# Altium integrated library WE-PD2A_rev15a.intlib: 99 symbols
Pins are listed as number, name and electrical type; pins without a type are passive.

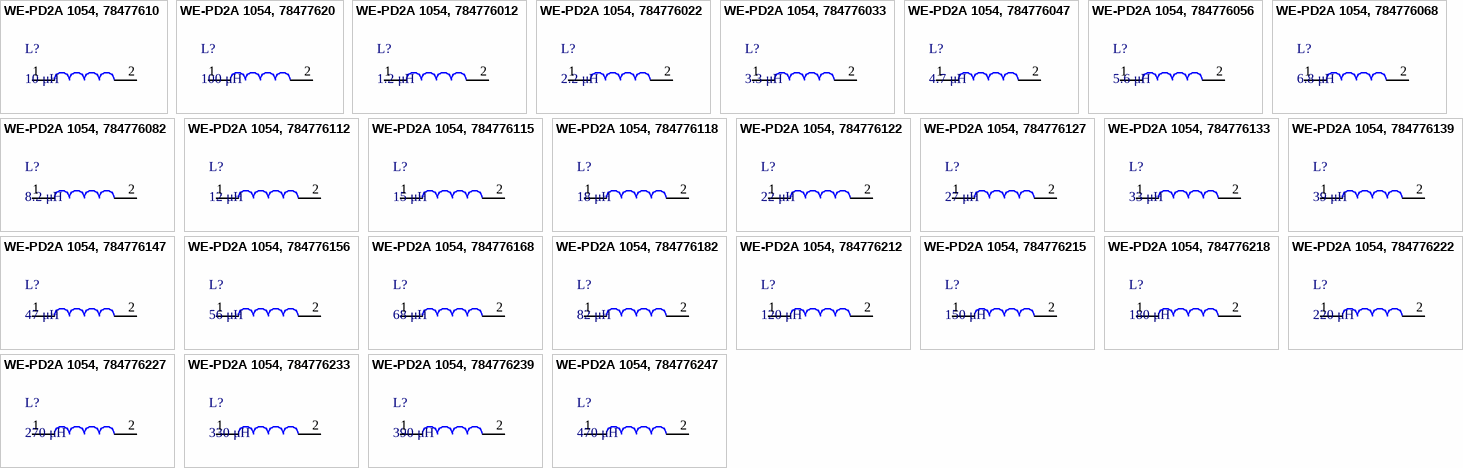
[diagram p0: symbols WE-PD2A 1054, 78477610 to WE-PD2A 1054, 784776247]

## WE-PD2A 1054, 78477610
designator L?, comment 10 μH
WE-PD2A SMD Power Inductor, Inductance = 10 μH; partNo: 78477610; Manufacturer: Wurth Elektronik; Inductance: 10 μH; ComponentLink1Description: Manufacturer; ComponentLink1URL: http://www.we-online.de; Created by: Baojun Chen; Created Date: Nov.2015; ComponentLink2Description: Datasheet; ComponentLink2URL: http://katalog.we-online.de/pbs/datasheet/78477610.pdf
footprint WE-PD2A_1054
pins: 1, 2

## WE-PD2A 1054, 78477620
designator L?, comment 100 μH
WE-PD2A SMD Power Inductor, Inductance = 100 μH; partNo: 78477620; Manufacturer: Wurth Elektronik; Inductance: 100 μH; ComponentLink1Description: Manufacturer; ComponentLink1URL: http://www.we-online.de; Created by: Baojun Chen; Created Date: Nov.2015; ComponentLink2Description: Datasheet; ComponentLink2URL: http://katalog.we-online.de/pbs/datasheet/78477620.pdf
footprint WE-PD2A_1054
pins: 1, 2

## WE-PD2A 1054, 784776012
designator L?, comment 1.2 μH
WE-PD2A SMD Power Inductor, Inductance = 1.2 μH; partNo: 784776012; Manufacturer: Wurth Elektronik; Inductance: 1.2 μH; ComponentLink1Description: Manufacturer; ComponentLink1URL: http://www.we-online.de; Created by: Baojun Chen; Created Date: Nov.2015; ComponentLink2Description: Datasheet; ComponentLink2URL: http://katalog.we-online.de/pbs/datasheet/784776012.pdf
footprint WE-PD2A_1054
pins: 1, 2

## WE-PD2A 1054, 784776022
designator L?, comment 2.2 μH
WE-PD2A SMD Power Inductor, Inductance = 2.2 μH; partNo: 784776022; Manufacturer: Wurth Elektronik; Inductance: 2.2 μH; ComponentLink1Description: Manufacturer; ComponentLink1URL: http://www.we-online.de; Created by: Baojun Chen; Created Date: Nov.2015; ComponentLink2Description: Datasheet; ComponentLink2URL: http://katalog.we-online.de/pbs/datasheet/784776022.pdf
footprint WE-PD2A_1054
pins: 1, 2

## WE-PD2A 1054, 784776033
designator L?, comment 3.3 μH
WE-PD2A SMD Power Inductor, Inductance = 3.3 μH; partNo: 784776033; Manufacturer: Wurth Elektronik; Inductance: 3.3 μH; ComponentLink1Description: Manufacturer; ComponentLink1URL: http://www.we-online.de; Created by: Baojun Chen; Created Date: Nov.2015; ComponentLink2Description: Datasheet; ComponentLink2URL: http://katalog.we-online.de/pbs/datasheet/784776033.pdf
footprint WE-PD2A_1054
pins: 1, 2

## WE-PD2A 1054, 784776047
designator L?, comment 4.7 μH
WE-PD2A SMD Power Inductor, Inductance = 4.7 μH; partNo: 784776047; Manufacturer: Wurth Elektronik; Inductance: 4.7 μH; ComponentLink1Description: Manufacturer; ComponentLink1URL: http://www.we-online.de; Created by: Baojun Chen; Created Date: Nov.2015; ComponentLink2Description: Datasheet; ComponentLink2URL: http://katalog.we-online.de/pbs/datasheet/784776047.pdf
footprint WE-PD2A_1054
pins: 1, 2

## WE-PD2A 1054, 784776056
designator L?, comment 5.6 μH
WE-PD2A SMD Power Inductor, Inductance = 5.6 μH; partNo: 784776056; Manufacturer: Wurth Elektronik; Inductance: 5.6 μH; ComponentLink1Description: Manufacturer; ComponentLink1URL: http://www.we-online.de; Created by: Baojun Chen; Created Date: Nov.2015; ComponentLink2Description: Datasheet; ComponentLink2URL: http://katalog.we-online.de/pbs/datasheet/784776056.pdf
footprint WE-PD2A_1054
pins: 1, 2

## WE-PD2A 1054, 784776068
designator L?, comment 6.8 μH
WE-PD2A SMD Power Inductor, Inductance = 6.8 μH; partNo: 784776068; Manufacturer: Wurth Elektronik; Inductance: 6.8 μH; ComponentLink1Description: Manufacturer; ComponentLink1URL: http://www.we-online.de; Created by: Baojun Chen; Created Date: Nov.2015; ComponentLink2Description: Datasheet; ComponentLink2URL: http://katalog.we-online.de/pbs/datasheet/784776068.pdf
footprint WE-PD2A_1054
pins: 1, 2

## WE-PD2A 1054, 784776082
designator L?, comment 8.2 μH
WE-PD2A SMD Power Inductor, Inductance = 8.2 μH; partNo: 784776082; Manufacturer: Wurth Elektronik; Inductance: 8.2 μH; ComponentLink1Description: Manufacturer; ComponentLink1URL: http://www.we-online.de; Created by: Baojun Chen; Created Date: Nov.2015; ComponentLink2Description: Datasheet; ComponentLink2URL: http://katalog.we-online.de/pbs/datasheet/784776082.pdf
footprint WE-PD2A_1054
pins: 1, 2

## WE-PD2A 1054, 784776112
designator L?, comment 12 μH
WE-PD2A SMD Power Inductor, Inductance = 12 μH; partNo: 784776112; Manufacturer: Wurth Elektronik; Inductance: 12 μH; ComponentLink1Description: Manufacturer; ComponentLink1URL: http://www.we-online.de; Created by: Baojun Chen; Created Date: Nov.2015; ComponentLink2Description: Datasheet; ComponentLink2URL: http://katalog.we-online.de/pbs/datasheet/784776112.pdf
footprint WE-PD2A_1054
pins: 1, 2

## WE-PD2A 1054, 784776115
designator L?, comment 15 μH
WE-PD2A SMD Power Inductor, Inductance = 15 μH; partNo: 784776115; Manufacturer: Wurth Elektronik; Inductance: 15 μH; ComponentLink1Description: Manufacturer; ComponentLink1URL: http://www.we-online.de; Created by: Baojun Chen; Created Date: Nov.2015; ComponentLink2Description: Datasheet; ComponentLink2URL: http://katalog.we-online.de/pbs/datasheet/784776115.pdf
footprint WE-PD2A_1054
pins: 1, 2

## WE-PD2A 1054, 784776118
designator L?, comment 18 μH
WE-PD2A SMD Power Inductor, Inductance = 18 μH; partNo: 784776118; Manufacturer: Wurth Elektronik; Inductance: 18 μH; ComponentLink1Description: Manufacturer; ComponentLink1URL: http://www.we-online.de; Created by: Baojun Chen; Created Date: Nov.2015; ComponentLink2Description: Datasheet; ComponentLink2URL: http://katalog.we-online.de/pbs/datasheet/784776118.pdf
footprint WE-PD2A_1054
pins: 1, 2

## WE-PD2A 1054, 784776122
designator L?, comment 22 μH
WE-PD2A SMD Power Inductor, Inductance = 22 μH; partNo: 784776122; Manufacturer: Wurth Elektronik; Inductance: 22 μH; ComponentLink1Description: Manufacturer; ComponentLink1URL: http://www.we-online.de; Created by: Baojun Chen; Created Date: Nov.2015; ComponentLink2Description: Datasheet; ComponentLink2URL: http://katalog.we-online.de/pbs/datasheet/784776122.pdf
footprint WE-PD2A_1054
pins: 1, 2

## WE-PD2A 1054, 784776127
designator L?, comment 27 μH
WE-PD2A SMD Power Inductor, Inductance = 27 μH; partNo: 784776127; Manufacturer: Wurth Elektronik; Inductance: 27 μH; ComponentLink1Description: Manufacturer; ComponentLink1URL: http://www.we-online.de; Created by: Baojun Chen; Created Date: Nov.2015; ComponentLink2Description: Datasheet; ComponentLink2URL: http://katalog.we-online.de/pbs/datasheet/784776127.pdf
footprint WE-PD2A_1054
pins: 1, 2

## WE-PD2A 1054, 784776133
designator L?, comment 33 μH
WE-PD2A SMD Power Inductor, Inductance = 33 μH; partNo: 784776133; Manufacturer: Wurth Elektronik; Inductance: 33 μH; ComponentLink1Description: Manufacturer; ComponentLink1URL: http://www.we-online.de; Created by: Baojun Chen; Created Date: Nov.2015; ComponentLink2Description: Datasheet; ComponentLink2URL: http://katalog.we-online.de/pbs/datasheet/784776133.pdf
footprint WE-PD2A_1054
pins: 1, 2

## WE-PD2A 1054, 784776139
designator L?, comment 39 μH
WE-PD2A SMD Power Inductor, Inductance = 39 μH; partNo: 784776139; Manufacturer: Wurth Elektronik; Inductance: 39 μH; ComponentLink1Description: Manufacturer; ComponentLink1URL: http://www.we-online.de; Created by: Baojun Chen; Created Date: Nov.2015; ComponentLink2Description: Datasheet; ComponentLink2URL: http://katalog.we-online.de/pbs/datasheet/784776139.pdf
footprint WE-PD2A_1054
pins: 1, 2

## WE-PD2A 1054, 784776147
designator L?, comment 47 μH
WE-PD2A SMD Power Inductor, Inductance = 47 μH; partNo: 784776147; Manufacturer: Wurth Elektronik; Inductance: 47 μH; ComponentLink1Description: Manufacturer; ComponentLink1URL: http://www.we-online.de; Created by: Baojun Chen; Created Date: Nov.2015; ComponentLink2Description: Datasheet; ComponentLink2URL: http://katalog.we-online.de/pbs/datasheet/784776147.pdf
footprint WE-PD2A_1054
pins: 1, 2

## WE-PD2A 1054, 784776156
designator L?, comment 56 μH
WE-PD2A SMD Power Inductor, Inductance = 56 μH; partNo: 784776156; Manufacturer: Wurth Elektronik; Inductance: 56 μH; ComponentLink1Description: Manufacturer; ComponentLink1URL: http://www.we-online.de; Created by: Baojun Chen; Created Date: Nov.2015; ComponentLink2Description: Datasheet; ComponentLink2URL: http://katalog.we-online.de/pbs/datasheet/784776156.pdf
footprint WE-PD2A_1054
pins: 1, 2

## WE-PD2A 1054, 784776168
designator L?, comment 68 μH
WE-PD2A SMD Power Inductor, Inductance = 68 μH; partNo: 784776168; Manufacturer: Wurth Elektronik; Inductance: 68 μH; ComponentLink1Description: Manufacturer; ComponentLink1URL: http://www.we-online.de; Created by: Baojun Chen; Created Date: Nov.2015; ComponentLink2Description: Datasheet; ComponentLink2URL: http://katalog.we-online.de/pbs/datasheet/784776168.pdf
footprint WE-PD2A_1054
pins: 1, 2

## WE-PD2A 1054, 784776182
designator L?, comment 82 μH
WE-PD2A SMD Power Inductor, Inductance = 82 μH; partNo: 784776182; Manufacturer: Wurth Elektronik; Inductance: 82 μH; ComponentLink1Description: Manufacturer; ComponentLink1URL: http://www.we-online.de; Created by: Baojun Chen; Created Date: Nov.2015; ComponentLink2Description: Datasheet; ComponentLink2URL: http://katalog.we-online.de/pbs/datasheet/784776182.pdf
footprint WE-PD2A_1054
pins: 1, 2

## WE-PD2A 1054, 784776212
designator L?, comment 120 μH
WE-PD2A SMD Power Inductor, Inductance = 120 μH; partNo: 784776212; Manufacturer: Wurth Elektronik; Inductance: 120 μH; ComponentLink1Description: Manufacturer; ComponentLink1URL: http://www.we-online.de; Created by: Baojun Chen; Created Date: Nov.2015; ComponentLink2Description: Datasheet; ComponentLink2URL: http://katalog.we-online.de/pbs/datasheet/784776212.pdf
footprint WE-PD2A_1054
pins: 1, 2

## WE-PD2A 1054, 784776215
designator L?, comment 150 μH
WE-PD2A SMD Power Inductor, Inductance = 150 μH; partNo: 784776215; Manufacturer: Wurth Elektronik; Inductance: 150 μH; ComponentLink1Description: Manufacturer; ComponentLink1URL: http://www.we-online.de; Created by: Baojun Chen; Created Date: Nov.2015; ComponentLink2Description: Datasheet; ComponentLink2URL: http://katalog.we-online.de/pbs/datasheet/784776215.pdf
footprint WE-PD2A_1054
pins: 1, 2

## WE-PD2A 1054, 784776218
designator L?, comment 180 μH
WE-PD2A SMD Power Inductor, Inductance = 180 μH; partNo: 784776218; Manufacturer: Wurth Elektronik; Inductance: 180 μH; ComponentLink1Description: Manufacturer; ComponentLink1URL: http://www.we-online.de; Created by: Baojun Chen; Created Date: Nov.2015; ComponentLink2Description: Datasheet; ComponentLink2URL: http://katalog.we-online.de/pbs/datasheet/784776218.pdf
footprint WE-PD2A_1054
pins: 1, 2

## WE-PD2A 1054, 784776222
designator L?, comment 220 μH
WE-PD2A SMD Power Inductor, Inductance = 220 μH; partNo: 784776222; Manufacturer: Wurth Elektronik; Inductance: 220 μH; ComponentLink1Description: Manufacturer; ComponentLink1URL: http://www.we-online.de; Created by: Baojun Chen; Created Date: Nov.2015; ComponentLink2Description: Datasheet; ComponentLink2URL: http://katalog.we-online.de/pbs/datasheet/784776222.pdf
footprint WE-PD2A_1054
pins: 1, 2

## WE-PD2A 1054, 784776227
designator L?, comment 270 μH
WE-PD2A SMD Power Inductor, Inductance = 270 μH; partNo: 784776227; Manufacturer: Wurth Elektronik; Inductance: 270 μH; ComponentLink1Description: Manufacturer; ComponentLink1URL: http://www.we-online.de; Created by: Baojun Chen; Created Date: Nov.2015; ComponentLink2Description: Datasheet; ComponentLink2URL: http://katalog.we-online.de/pbs/datasheet/784776227.pdf
footprint WE-PD2A_1054
pins: 1, 2

## WE-PD2A 1054, 784776233
designator L?, comment 330 μH
WE-PD2A SMD Power Inductor, Inductance = 330 μH; partNo: 784776233; Manufacturer: Wurth Elektronik; Inductance: 330 μH; ComponentLink1Description: Manufacturer; ComponentLink1URL: http://www.we-online.de; Created by: Baojun Chen; Created Date: Nov.2015; ComponentLink2Description: Datasheet; ComponentLink2URL: http://katalog.we-online.de/pbs/datasheet/784776233.pdf
footprint WE-PD2A_1054
pins: 1, 2

## WE-PD2A 1054, 784776239
designator L?, comment 390 μH
WE-PD2A SMD Power Inductor, Inductance = 390 μH; partNo: 784776239; Manufacturer: Wurth Elektronik; Inductance: 390 μH; ComponentLink1Description: Manufacturer; ComponentLink1URL: http://www.we-online.de; Created by: Baojun Chen; Created Date: Nov.2015; ComponentLink2Description: Datasheet; ComponentLink2URL: http://katalog.we-online.de/pbs/datasheet/784776239.pdf
footprint WE-PD2A_1054
pins: 1, 2

## WE-PD2A 1054, 784776247
designator L?, comment 470 μH
WE-PD2A SMD Power Inductor, Inductance = 470 μH; partNo: 784776247; Manufacturer: Wurth Elektronik; Inductance: 470 μH; ComponentLink1Description: Manufacturer; ComponentLink1URL: http://www.we-online.de; Created by: Baojun Chen; Created Date: Nov.2015; ComponentLink2Description: Datasheet; ComponentLink2URL: http://katalog.we-online.de/pbs/datasheet/784776247.pdf
footprint WE-PD2A_1054
pins: 1, 2


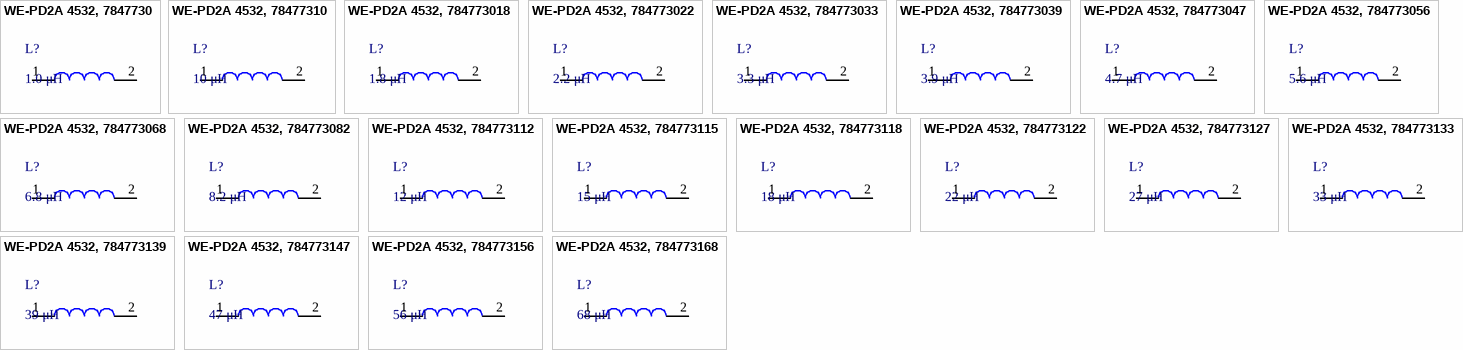
[diagram p1: symbols WE-PD2A 4532, 7847730 to WE-PD2A 4532, 784773168]

## WE-PD2A 4532, 7847730
designator L?, comment 1.0 μH
WE-PD2A SMD Power Inductor, Inductance = 1.0 μH; partNo: 7847730; Manufacturer: Wurth Elektronik; Inductance: 1.0 μH; ComponentLink1Description: Manufacturer; ComponentLink1URL: http://www.we-online.de; Created by: Baojun Chen; Created Date: Nov.2015; ComponentLink2Description: Datasheet; ComponentLink2URL: http://katalog.we-online.de/pbs/datasheet/7847730.pdf
footprint WE-PD2A_4532
pins: 1, 2

## WE-PD2A 4532, 78477310
designator L?, comment 10 μH
WE-PD2A SMD Power Inductor, Inductance = 10 μH; partNo: 78477310; Manufacturer: Wurth Elektronik; Inductance: 10 μH; ComponentLink1Description: Manufacturer; ComponentLink1URL: http://www.we-online.de; Created by: Baojun Chen; Created Date: Nov.2015; ComponentLink2Description: Datasheet; ComponentLink2URL: http://katalog.we-online.de/pbs/datasheet/78477310.pdf
footprint WE-PD2A_4532
pins: 1, 2

## WE-PD2A 4532, 784773018
designator L?, comment 1.8 μH
WE-PD2A SMD Power Inductor, Inductance = 1.8 μH; partNo: 784773018; Manufacturer: Wurth Elektronik; Inductance: 1.8 μH; ComponentLink1Description: Manufacturer; ComponentLink1URL: http://www.we-online.de; Created by: Baojun Chen; Created Date: Nov.2015; ComponentLink2Description: Datasheet; ComponentLink2URL: http://katalog.we-online.de/pbs/datasheet/784773018.pdf
footprint WE-PD2A_4532
pins: 1, 2

## WE-PD2A 4532, 784773022
designator L?, comment 2.2 μH
WE-PD2A SMD Power Inductor, Inductance = 2.2 μH; partNo: 784773022; Manufacturer: Wurth Elektronik; Inductance: 2.2 μH; ComponentLink1Description: Manufacturer; ComponentLink1URL: http://www.we-online.de; Created by: Baojun Chen; Created Date: Nov.2015; ComponentLink2Description: Datasheet; ComponentLink2URL: http://katalog.we-online.de/pbs/datasheet/784773022.pdf
footprint WE-PD2A_4532
pins: 1, 2

## WE-PD2A 4532, 784773033
designator L?, comment 3.3 μH
WE-PD2A SMD Power Inductor, Inductance = 3.3 μH; partNo: 784773033; Manufacturer: Wurth Elektronik; Inductance: 3.3 μH; ComponentLink1Description: Manufacturer; ComponentLink1URL: http://www.we-online.de; Created by: Baojun Chen; Created Date: Nov.2015; ComponentLink2Description: Datasheet; ComponentLink2URL: http://katalog.we-online.de/pbs/datasheet/784773033.pdf
footprint WE-PD2A_4532
pins: 1, 2

## WE-PD2A 4532, 784773039
designator L?, comment 3.9 μH
WE-PD2A SMD Power Inductor, Inductance = 3.9 μH; partNo: 784773039; Manufacturer: Wurth Elektronik; Inductance: 3.9 μH; ComponentLink1Description: Manufacturer; ComponentLink1URL: http://www.we-online.de; Created by: Baojun Chen; Created Date: Nov.2015; ComponentLink2Description: Datasheet; ComponentLink2URL: http://katalog.we-online.de/pbs/datasheet/784773039.pdf
footprint WE-PD2A_4532
pins: 1, 2

## WE-PD2A 4532, 784773047
designator L?, comment 4.7 μH
WE-PD2A SMD Power Inductor, Inductance = 4.7 μH; partNo: 784773047; Manufacturer: Wurth Elektronik; Inductance: 4.7 μH; ComponentLink1Description: Manufacturer; ComponentLink1URL: http://www.we-online.de; Created by: Baojun Chen; Created Date: Nov.2015; ComponentLink2Description: Datasheet; ComponentLink2URL: http://katalog.we-online.de/pbs/datasheet/784773047.pdf
footprint WE-PD2A_4532
pins: 1, 2

## WE-PD2A 4532, 784773056
designator L?, comment 5.6 μH
WE-PD2A SMD Power Inductor, Inductance = 5.6 μH; partNo: 784773056; Manufacturer: Wurth Elektronik; Inductance: 5.6 μH; ComponentLink1Description: Manufacturer; ComponentLink1URL: http://www.we-online.de; Created by: Baojun Chen; Created Date: Nov.2015; ComponentLink2Description: Datasheet; ComponentLink2URL: http://katalog.we-online.de/pbs/datasheet/784773056.pdf
footprint WE-PD2A_4532
pins: 1, 2

## WE-PD2A 4532, 784773068
designator L?, comment 6.8 μH
WE-PD2A SMD Power Inductor, Inductance = 6.8 μH; partNo: 784773068; Manufacturer: Wurth Elektronik; Inductance: 6.8 μH; ComponentLink1Description: Manufacturer; ComponentLink1URL: http://www.we-online.de; Created by: Baojun Chen; Created Date: Nov.2015; ComponentLink2Description: Datasheet; ComponentLink2URL: http://katalog.we-online.de/pbs/datasheet/784773068.pdf
footprint WE-PD2A_4532
pins: 1, 2

## WE-PD2A 4532, 784773082
designator L?, comment 8.2 μH
WE-PD2A SMD Power Inductor, Inductance = 8.2 μH; partNo: 784773082; Manufacturer: Wurth Elektronik; Inductance: 8.2 μH; ComponentLink1Description: Manufacturer; ComponentLink1URL: http://www.we-online.de; Created by: Baojun Chen; Created Date: Nov.2015; ComponentLink2Description: Datasheet; ComponentLink2URL: http://katalog.we-online.de/pbs/datasheet/784773082.pdf
footprint WE-PD2A_4532
pins: 1, 2

## WE-PD2A 4532, 784773112
designator L?, comment 12 μH
WE-PD2A SMD Power Inductor, Inductance = 12 μH; partNo: 784773112; Manufacturer: Wurth Elektronik; Inductance: 12 μH; ComponentLink1Description: Manufacturer; ComponentLink1URL: http://www.we-online.de; Created by: Baojun Chen; Created Date: Nov.2015; ComponentLink2Description: Datasheet; ComponentLink2URL: http://katalog.we-online.de/pbs/datasheet/784773112.pdf
footprint WE-PD2A_4532
pins: 1, 2

## WE-PD2A 4532, 784773115
designator L?, comment 15 μH
WE-PD2A SMD Power Inductor, Inductance = 15 μH; partNo: 784773115; Manufacturer: Wurth Elektronik; Inductance: 15 μH; ComponentLink1Description: Manufacturer; ComponentLink1URL: http://www.we-online.de; Created by: Baojun Chen; Created Date: Nov.2015; ComponentLink2Description: Datasheet; ComponentLink2URL: http://katalog.we-online.de/pbs/datasheet/784773115.pdf
footprint WE-PD2A_4532
pins: 1, 2

## WE-PD2A 4532, 784773118
designator L?, comment 18 μH
WE-PD2A SMD Power Inductor, Inductance = 18 μH; partNo: 784773118; Manufacturer: Wurth Elektronik; Inductance: 18 μH; ComponentLink1Description: Manufacturer; ComponentLink1URL: http://www.we-online.de; Created by: Baojun Chen; Created Date: Nov.2015; ComponentLink2Description: Datasheet; ComponentLink2URL: http://katalog.we-online.de/pbs/datasheet/784773118.pdf
footprint WE-PD2A_4532
pins: 1, 2

## WE-PD2A 4532, 784773122
designator L?, comment 22 μH
WE-PD2A SMD Power Inductor, Inductance = 22 μH; partNo: 784773122; Manufacturer: Wurth Elektronik; Inductance: 22 μH; ComponentLink1Description: Manufacturer; ComponentLink1URL: http://www.we-online.de; Created by: Baojun Chen; Created Date: Nov.2015; ComponentLink2Description: Datasheet; ComponentLink2URL: http://katalog.we-online.de/pbs/datasheet/784773122.pdf
footprint WE-PD2A_4532
pins: 1, 2

## WE-PD2A 4532, 784773127
designator L?, comment 27 μH
WE-PD2A SMD Power Inductor, Inductance = 27 μH; partNo: 784773127; Manufacturer: Wurth Elektronik; Inductance: 27 μH; ComponentLink1Description: Manufacturer; ComponentLink1URL: http://www.we-online.de; Created by: Baojun Chen; Created Date: Nov.2015; ComponentLink2Description: Datasheet; ComponentLink2URL: http://katalog.we-online.de/pbs/datasheet/784773127.pdf
footprint WE-PD2A_4532
pins: 1, 2

## WE-PD2A 4532, 784773133
designator L?, comment 33 μH
WE-PD2A SMD Power Inductor, Inductance = 33 μH; partNo: 784773133; Manufacturer: Wurth Elektronik; Inductance: 33 μH; ComponentLink1Description: Manufacturer; ComponentLink1URL: http://www.we-online.de; Created by: Baojun Chen; Created Date: Nov.2015; ComponentLink2Description: Datasheet; ComponentLink2URL: http://katalog.we-online.de/pbs/datasheet/784773133.pdf
footprint WE-PD2A_4532
pins: 1, 2

## WE-PD2A 4532, 784773139
designator L?, comment 39 μH
WE-PD2A SMD Power Inductor, Inductance = 39 μH; partNo: 784773139; Manufacturer: Wurth Elektronik; Inductance: 39 μH; ComponentLink1Description: Manufacturer; ComponentLink1URL: http://www.we-online.de; Created by: Baojun Chen; Created Date: Nov.2015; ComponentLink2Description: Datasheet; ComponentLink2URL: http://katalog.we-online.de/pbs/datasheet/784773139.pdf
footprint WE-PD2A_4532
pins: 1, 2

## WE-PD2A 4532, 784773147
designator L?, comment 47 μH
WE-PD2A SMD Power Inductor, Inductance = 47 μH; partNo: 784773147; Manufacturer: Wurth Elektronik; Inductance: 47 μH; ComponentLink1Description: Manufacturer; ComponentLink1URL: http://www.we-online.de; Created by: Baojun Chen; Created Date: Nov.2015; ComponentLink2Description: Datasheet; ComponentLink2URL: http://katalog.we-online.de/pbs/datasheet/784773147.pdf
footprint WE-PD2A_4532
pins: 1, 2

## WE-PD2A 4532, 784773156
designator L?, comment 56 μH
WE-PD2A SMD Power Inductor, Inductance = 56 μH; partNo: 784773156; Manufacturer: Wurth Elektronik; Inductance: 56 μH; ComponentLink1Description: Manufacturer; ComponentLink1URL: http://www.we-online.de; Created by: Baojun Chen; Created Date: Nov.2015; ComponentLink2Description: Datasheet; ComponentLink2URL: http://katalog.we-online.de/pbs/datasheet/784773156.pdf
footprint WE-PD2A_4532
pins: 1, 2

## WE-PD2A 4532, 784773168
designator L?, comment 68 μH
WE-PD2A SMD Power Inductor, Inductance = 68 μH; partNo: 784773168; Manufacturer: Wurth Elektronik; Inductance: 68 μH; ComponentLink1Description: Manufacturer; ComponentLink1URL: http://www.we-online.de; Created by: Baojun Chen; Created Date: Nov.2015; ComponentLink2Description: Datasheet; ComponentLink2URL: http://katalog.we-online.de/pbs/datasheet/784773168.pdf
footprint WE-PD2A_4532
pins: 1, 2


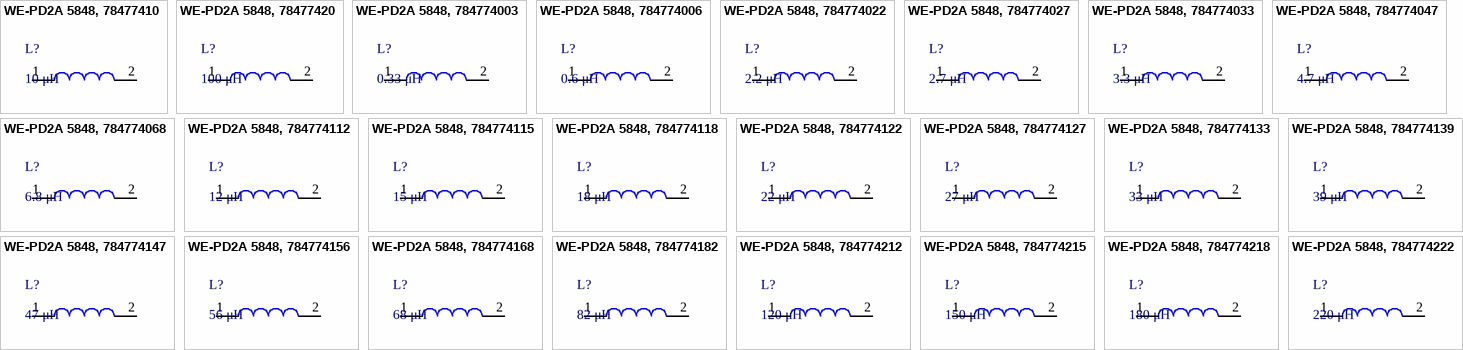
[diagram p2: symbols WE-PD2A 5848, 78477410 to WE-PD2A 5848, 784774222]

## WE-PD2A 5848, 78477410
designator L?, comment 10 μH
WE-PD2A SMD Power Inductor, Inductance = 10 μH; partNo: 78477410; Manufacturer: Wurth Elektronik; Inductance: 10 μH; ComponentLink1Description: Manufacturer; ComponentLink1URL: http://www.we-online.de; Created by: Baojun Chen; Created Date: Nov.2015; ComponentLink2Description: Datasheet; ComponentLink2URL: http://katalog.we-online.de/pbs/datasheet/78477410.pdf
footprint WE-PD2A_5848
pins: 1, 2

## WE-PD2A 5848, 78477420
designator L?, comment 100 μH
WE-PD2A SMD Power Inductor, Inductance = 100 μH; partNo: 78477420; Manufacturer: Wurth Elektronik; Inductance: 100 μH; ComponentLink1Description: Manufacturer; ComponentLink1URL: http://www.we-online.de; Created by: Baojun Chen; Created Date: Nov.2015; ComponentLink2Description: Datasheet; ComponentLink2URL: http://katalog.we-online.de/pbs/datasheet/78477420.pdf
footprint WE-PD2A_5848
pins: 1, 2

## WE-PD2A 5848, 784774003
designator L?, comment 0.33 μH
WE-PD2A SMD Power Inductor, Inductance = 0.33 μH; partNo: 784774003; Manufacturer: Wurth Elektronik; Inductance: 0.33 μH; ComponentLink1Description: Manufacturer; ComponentLink1URL: http://www.we-online.de; Created by: Baojun Chen; Created Date: Nov.2015; ComponentLink2Description: Datasheet; ComponentLink2URL: http://katalog.we-online.de/pbs/datasheet/784774003.pdf
footprint WE-PD2A_5848
pins: 1, 2

## WE-PD2A 5848, 784774006
designator L?, comment 0.6 μH
WE-PD2A SMD Power Inductor, Inductance = 0.6 μH; partNo: 784774006; Manufacturer: Wurth Elektronik; Inductance: 0.6 μH; ComponentLink1Description: Manufacturer; ComponentLink1URL: http://www.we-online.de; Created by: Baojun Chen; Created Date: Nov.2015; ComponentLink2Description: Datasheet; ComponentLink2URL: http://katalog.we-online.de/pbs/datasheet/784774006.pdf
footprint WE-PD2A_5848
pins: 1, 2

## WE-PD2A 5848, 784774022
designator L?, comment 2.2 μH
WE-PD2A SMD Power Inductor, Inductance = 2.2 μH; partNo: 784774022; Manufacturer: Wurth Elektronik; Inductance: 2.2 μH; ComponentLink1Description: Manufacturer; ComponentLink1URL: http://www.we-online.de; Created by: Baojun Chen; Created Date: Nov.2015; ComponentLink2Description: Datasheet; ComponentLink2URL: http://katalog.we-online.de/pbs/datasheet/784774022.pdf
footprint WE-PD2A_5848
pins: 1, 2

## WE-PD2A 5848, 784774027
designator L?, comment 2.7 μH
WE-PD2A SMD Power Inductor, Inductance = 2.7 μH; partNo: 784774027; Manufacturer: Wurth Elektronik; Inductance: 2.7 μH; ComponentLink1Description: Manufacturer; ComponentLink1URL: http://www.we-online.de; Created by: Baojun Chen; Created Date: Nov.2015; ComponentLink2Description: Datasheet; ComponentLink2URL: http://katalog.we-online.de/pbs/datasheet/784774027.pdf
footprint WE-PD2A_5848
pins: 1, 2

## WE-PD2A 5848, 784774033
designator L?, comment 3.3 μH
WE-PD2A SMD Power Inductor, Inductance = 3.3 μH; partNo: 784774033; Manufacturer: Wurth Elektronik; Inductance: 3.3 μH; ComponentLink1Description: Manufacturer; ComponentLink1URL: http://www.we-online.de; Created by: Baojun Chen; Created Date: Nov.2015; ComponentLink2Description: Datasheet; ComponentLink2URL: http://katalog.we-online.de/pbs/datasheet/784774033.pdf
footprint WE-PD2A_5848
pins: 1, 2

## WE-PD2A 5848, 784774047
designator L?, comment 4.7 μH
WE-PD2A SMD Power Inductor, Inductance = 4.7 μH; partNo: 784774047; Manufacturer: Wurth Elektronik; Inductance: 4.7 μH; ComponentLink1Description: Manufacturer; ComponentLink1URL: http://www.we-online.de; Created by: Baojun Chen; Created Date: Nov.2015; ComponentLink2Description: Datasheet; ComponentLink2URL: http://katalog.we-online.de/pbs/datasheet/784774047.pdf
footprint WE-PD2A_5848
pins: 1, 2

## WE-PD2A 5848, 784774068
designator L?, comment 6.8 μH
WE-PD2A SMD Power Inductor, Inductance = 6.8 μH; partNo: 784774068; Manufacturer: Wurth Elektronik; Inductance: 6.8 μH; ComponentLink1Description: Manufacturer; ComponentLink1URL: http://www.we-online.de; Created by: Baojun Chen; Created Date: Nov.2015; ComponentLink2Description: Datasheet; ComponentLink2URL: http://katalog.we-online.de/pbs/datasheet/784774068.pdf
footprint WE-PD2A_5848
pins: 1, 2

## WE-PD2A 5848, 784774112
designator L?, comment 12 μH
WE-PD2A SMD Power Inductor, Inductance = 12 μH; partNo: 784774112; Manufacturer: Wurth Elektronik; Inductance: 12 μH; ComponentLink1Description: Manufacturer; ComponentLink1URL: http://www.we-online.de; Created by: Baojun Chen; Created Date: Nov.2015; ComponentLink2Description: Datasheet; ComponentLink2URL: http://katalog.we-online.de/pbs/datasheet/784774112.pdf
footprint WE-PD2A_5848
pins: 1, 2

## WE-PD2A 5848, 784774115
designator L?, comment 15 μH
WE-PD2A SMD Power Inductor, Inductance = 15 μH; partNo: 784774115; Manufacturer: Wurth Elektronik; Inductance: 15 μH; ComponentLink1Description: Manufacturer; ComponentLink1URL: http://www.we-online.de; Created by: Baojun Chen; Created Date: Nov.2015; ComponentLink2Description: Datasheet; ComponentLink2URL: http://katalog.we-online.de/pbs/datasheet/784774115.pdf
footprint WE-PD2A_5848
pins: 1, 2

## WE-PD2A 5848, 784774118
designator L?, comment 18 μH
WE-PD2A SMD Power Inductor, Inductance = 18 μH; partNo: 784774118; Manufacturer: Wurth Elektronik; Inductance: 18 μH; ComponentLink1Description: Manufacturer; ComponentLink1URL: http://www.we-online.de; Created by: Baojun Chen; Created Date: Nov.2015; ComponentLink2Description: Datasheet; ComponentLink2URL: http://katalog.we-online.de/pbs/datasheet/784774118.pdf
footprint WE-PD2A_5848
pins: 1, 2

## WE-PD2A 5848, 784774122
designator L?, comment 22 μH
WE-PD2A SMD Power Inductor, Inductance = 22 μH; partNo: 784774122; Manufacturer: Wurth Elektronik; Inductance: 22 μH; ComponentLink1Description: Manufacturer; ComponentLink1URL: http://www.we-online.de; Created by: Baojun Chen; Created Date: Nov.2015; ComponentLink2Description: Datasheet; ComponentLink2URL: http://katalog.we-online.de/pbs/datasheet/784774122.pdf
footprint WE-PD2A_5848
pins: 1, 2

## WE-PD2A 5848, 784774127
designator L?, comment 27 μH
WE-PD2A SMD Power Inductor, Inductance = 27 μH; partNo: 784774127; Manufacturer: Wurth Elektronik; Inductance: 27 μH; ComponentLink1Description: Manufacturer; ComponentLink1URL: http://www.we-online.de; Created by: Baojun Chen; Created Date: Nov.2015; ComponentLink2Description: Datasheet; ComponentLink2URL: http://katalog.we-online.de/pbs/datasheet/784774127.pdf
footprint WE-PD2A_5848
pins: 1, 2

## WE-PD2A 5848, 784774133
designator L?, comment 33 μH
WE-PD2A SMD Power Inductor, Inductance = 33 μH; partNo: 784774133; Manufacturer: Wurth Elektronik; Inductance: 33 μH; ComponentLink1Description: Manufacturer; ComponentLink1URL: http://www.we-online.de; Created by: Baojun Chen; Created Date: Nov.2015; ComponentLink2Description: Datasheet; ComponentLink2URL: http://katalog.we-online.de/pbs/datasheet/784774133.pdf
footprint WE-PD2A_5848
pins: 1, 2

## WE-PD2A 5848, 784774139
designator L?, comment 39 μH
WE-PD2A SMD Power Inductor, Inductance = 39 μH; partNo: 784774139; Manufacturer: Wurth Elektronik; Inductance: 39 μH; ComponentLink1Description: Manufacturer; ComponentLink1URL: http://www.we-online.de; Created by: Baojun Chen; Created Date: Nov.2015; ComponentLink2Description: Datasheet; ComponentLink2URL: http://katalog.we-online.de/pbs/datasheet/784774139.pdf
footprint WE-PD2A_5848
pins: 1, 2

## WE-PD2A 5848, 784774147
designator L?, comment 47 μH
WE-PD2A SMD Power Inductor, Inductance = 47 μH; partNo: 784774147; Manufacturer: Wurth Elektronik; Inductance: 47 μH; ComponentLink1Description: Manufacturer; ComponentLink1URL: http://www.we-online.de; Created by: Baojun Chen; Created Date: Nov.2015; ComponentLink2Description: Datasheet; ComponentLink2URL: http://katalog.we-online.de/pbs/datasheet/784774147.pdf
footprint WE-PD2A_5848
pins: 1, 2

## WE-PD2A 5848, 784774156
designator L?, comment 56 μH
WE-PD2A SMD Power Inductor, Inductance = 56 μH; partNo: 784774156; Manufacturer: Wurth Elektronik; Inductance: 56 μH; ComponentLink1Description: Manufacturer; ComponentLink1URL: http://www.we-online.de; Created by: Baojun Chen; Created Date: Nov.2015; ComponentLink2Description: Datasheet; ComponentLink2URL: http://katalog.we-online.de/pbs/datasheet/784774156.pdf
footprint WE-PD2A_5848
pins: 1, 2

## WE-PD2A 5848, 784774168
designator L?, comment 68 μH
WE-PD2A SMD Power Inductor, Inductance = 68 μH; partNo: 784774168; Manufacturer: Wurth Elektronik; Inductance: 68 μH; ComponentLink1Description: Manufacturer; ComponentLink1URL: http://www.we-online.de; Created by: Baojun Chen; Created Date: Nov.2015; ComponentLink2Description: Datasheet; ComponentLink2URL: http://katalog.we-online.de/pbs/datasheet/784774168.pdf
footprint WE-PD2A_5848
pins: 1, 2

## WE-PD2A 5848, 784774182
designator L?, comment 82 μH
WE-PD2A SMD Power Inductor, Inductance = 82 μH; partNo: 784774182; Manufacturer: Wurth Elektronik; Inductance: 82 μH; ComponentLink1Description: Manufacturer; ComponentLink1URL: http://www.we-online.de; Created by: Baojun Chen; Created Date: Nov.2015; ComponentLink2Description: Datasheet; ComponentLink2URL: http://katalog.we-online.de/pbs/datasheet/784774182.pdf
footprint WE-PD2A_5848
pins: 1, 2

## WE-PD2A 5848, 784774212
designator L?, comment 120 μH
WE-PD2A SMD Power Inductor, Inductance = 120 μH; partNo: 784774212; Manufacturer: Wurth Elektronik; Inductance: 120 μH; ComponentLink1Description: Manufacturer; ComponentLink1URL: http://www.we-online.de; Created by: Baojun Chen; Created Date: Nov.2015; ComponentLink2Description: Datasheet; ComponentLink2URL: http://katalog.we-online.de/pbs/datasheet/784774212.pdf
footprint WE-PD2A_5848
pins: 1, 2

## WE-PD2A 5848, 784774215
designator L?, comment 150 μH
WE-PD2A SMD Power Inductor, Inductance = 150 μH; partNo: 784774215; Manufacturer: Wurth Elektronik; Inductance: 150 μH; ComponentLink1Description: Manufacturer; ComponentLink1URL: http://www.we-online.de; Created by: Baojun Chen; Created Date: Nov.2015; ComponentLink2Description: Datasheet; ComponentLink2URL: http://katalog.we-online.de/pbs/datasheet/784774215.pdf
footprint WE-PD2A_5848
pins: 1, 2

## WE-PD2A 5848, 784774218
designator L?, comment 180 μH
WE-PD2A SMD Power Inductor, Inductance = 180 μH; partNo: 784774218; Manufacturer: Wurth Elektronik; Inductance: 180 μH; ComponentLink1Description: Manufacturer; ComponentLink1URL: http://www.we-online.de; Created by: Baojun Chen; Created Date: Nov.2015; ComponentLink2Description: Datasheet; ComponentLink2URL: http://katalog.we-online.de/pbs/datasheet/784774218.pdf
footprint WE-PD2A_5848
pins: 1, 2

## WE-PD2A 5848, 784774222
designator L?, comment 220 μH
WE-PD2A SMD Power Inductor, Inductance = 220 μH; partNo: 784774222; Manufacturer: Wurth Elektronik; Inductance: 220 μH; ComponentLink1Description: Manufacturer; ComponentLink1URL: http://www.we-online.de; Created by: Baojun Chen; Created Date: Nov.2015; ComponentLink2Description: Datasheet; ComponentLink2URL: http://katalog.we-online.de/pbs/datasheet/784774222.pdf
footprint WE-PD2A_5848
pins: 1, 2


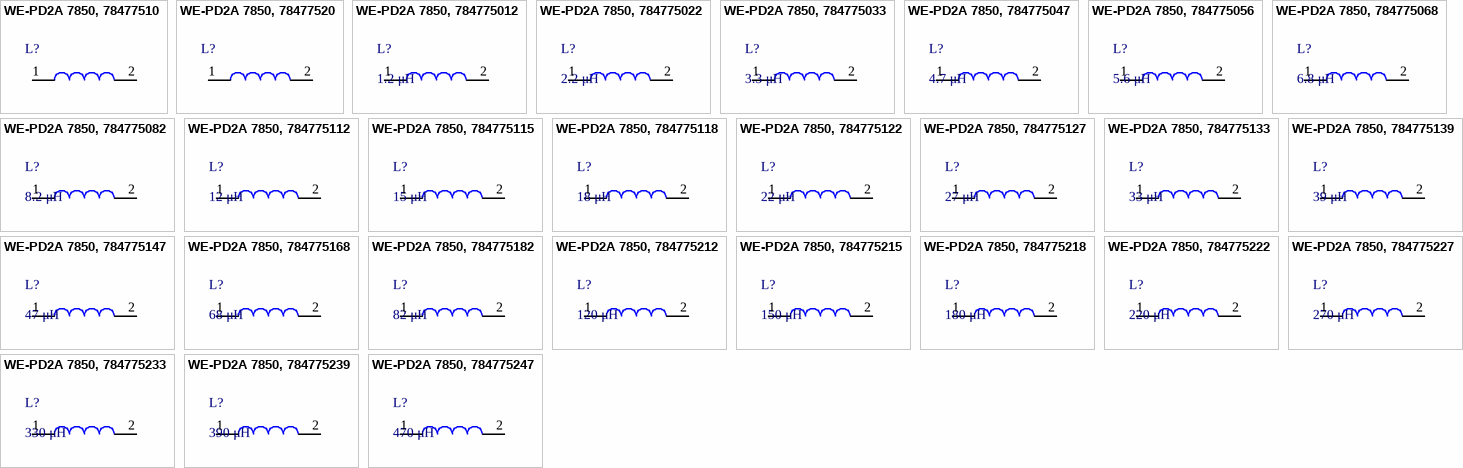
[diagram p3: symbols WE-PD2A 7850, 78477510 to WE-PD2A 7850, 784775247]

## WE-PD2A 7850, 78477510
designator L?
WE-PD2A SMD Power Inductor, Inductance = 10 μH; Manufacturer: Wurth Elektronik; ComponentLink1Description: Manufacturer; ComponentLink1URL: http://www.we-online.de; Created by: Baojun Chen; Created Date: Nov.2015; ComponentLink2Description: Datasheet
footprint WE-PD2A_7850
pins: 1, 2

## WE-PD2A 7850, 78477520
designator L?
WE-PD2A SMD Power Inductor, Inductance = 100 μH; Manufacturer: Wurth Elektronik; ComponentLink1Description: Manufacturer; ComponentLink1URL: http://www.we-online.de; Created by: Baojun Chen; Created Date: Nov.2015; ComponentLink2Description: Datasheet
footprint WE-PD2A_7850
pins: 1, 2

## WE-PD2A 7850, 784775012
designator L?, comment 1.2 μH
WE-PD2A SMD Power Inductor, Inductance = 1.2 μH; partNo: 784775012; Manufacturer: Wurth Elektronik; Inductance: 1.2 μH; ComponentLink1Description: Manufacturer; ComponentLink1URL: http://www.we-online.de; Created by: Baojun Chen; Created Date: Nov.2015; ComponentLink2Description: Datasheet; ComponentLink2URL: http://katalog.we-online.de/pbs/datasheet/784775012.pdf
footprint WE-PD2A_7850
pins: 1, 2

## WE-PD2A 7850, 784775022
designator L?, comment 2.2 μH
WE-PD2A SMD Power Inductor, Inductance = 2.2 μH; partNo: 784775022; Manufacturer: Wurth Elektronik; Inductance: 2.2 μH; ComponentLink1Description: Manufacturer; ComponentLink1URL: http://www.we-online.de; Created by: Baojun Chen; Created Date: Nov.2015; ComponentLink2Description: Datasheet; ComponentLink2URL: http://katalog.we-online.de/pbs/datasheet/784775022.pdf
footprint WE-PD2A_7850
pins: 1, 2

## WE-PD2A 7850, 784775033
designator L?, comment 3.3 μH
WE-PD2A SMD Power Inductor, Inductance = 3.3 μH; partNo: 784775033; Manufacturer: Wurth Elektronik; Inductance: 3.3 μH; ComponentLink1Description: Manufacturer; ComponentLink1URL: http://www.we-online.de; Created by: Baojun Chen; Created Date: Nov.2015; ComponentLink2Description: Datasheet; ComponentLink2URL: http://katalog.we-online.de/pbs/datasheet/784775033.pdf
footprint WE-PD2A_7850
pins: 1, 2

## WE-PD2A 7850, 784775047
designator L?, comment 4.7 μH
WE-PD2A SMD Power Inductor, Inductance = 4.7 μH; partNo: 784775047; Manufacturer: Wurth Elektronik; Inductance: 4.7 μH; ComponentLink1Description: Manufacturer; ComponentLink1URL: http://www.we-online.de; Created by: Baojun Chen; Created Date: Nov.2015; ComponentLink2Description: Datasheet; ComponentLink2URL: http://katalog.we-online.de/pbs/datasheet/784775047.pdf
footprint WE-PD2A_7850
pins: 1, 2

## WE-PD2A 7850, 784775056
designator L?, comment 5.6 μH
WE-PD2A SMD Power Inductor, Inductance = 5.6 μH; partNo: 784775056; Manufacturer: Wurth Elektronik; Inductance: 5.6 μH; ComponentLink1Description: Manufacturer; ComponentLink1URL: http://www.we-online.de; Created by: Baojun Chen; Created Date: Nov.2015; ComponentLink2Description: Datasheet; ComponentLink2URL: http://katalog.we-online.de/pbs/datasheet/784775056.pdf
footprint WE-PD2A_7850
pins: 1, 2

## WE-PD2A 7850, 784775068
designator L?, comment 6.8 μH
WE-PD2A SMD Power Inductor, Inductance = 6.8 μH; partNo: 784775068; Manufacturer: Wurth Elektronik; Inductance: 6.8 μH; ComponentLink1Description: Manufacturer; ComponentLink1URL: http://www.we-online.de; Created by: Baojun Chen; Created Date: Nov.2015; ComponentLink2Description: Datasheet; ComponentLink2URL: http://katalog.we-online.de/pbs/datasheet/784775068.pdf
footprint WE-PD2A_7850
pins: 1, 2

## WE-PD2A 7850, 784775082
designator L?, comment 8.2 μH
WE-PD2A SMD Power Inductor, Inductance = 8.2 μH; partNo: 784775082; Manufacturer: Wurth Elektronik; Inductance: 8.2 μH; ComponentLink1Description: Manufacturer; ComponentLink1URL: http://www.we-online.de; Created by: Baojun Chen; Created Date: Nov.2015; ComponentLink2Description: Datasheet; ComponentLink2URL: http://katalog.we-online.de/pbs/datasheet/784775082.pdf
footprint WE-PD2A_7850
pins: 1, 2

## WE-PD2A 7850, 784775112
designator L?, comment 12 μH
WE-PD2A SMD Power Inductor, Inductance = 12 μH; partNo: 784775112; Manufacturer: Wurth Elektronik; Inductance: 12 μH; ComponentLink1Description: Manufacturer; ComponentLink1URL: http://www.we-online.de; Created by: Baojun Chen; Created Date: Nov.2015; ComponentLink2Description: Datasheet; ComponentLink2URL: http://katalog.we-online.de/pbs/datasheet/784775112.pdf
footprint WE-PD2A_7850
pins: 1, 2

## WE-PD2A 7850, 784775115
designator L?, comment 15 μH
WE-PD2A SMD Power Inductor, Inductance = 15 μH; partNo: 784775115; Manufacturer: Wurth Elektronik; Inductance: 15 μH; ComponentLink1Description: Manufacturer; ComponentLink1URL: http://www.we-online.de; Created by: Baojun Chen; Created Date: Nov.2015; ComponentLink2Description: Datasheet; ComponentLink2URL: http://katalog.we-online.de/pbs/datasheet/784775115.pdf
footprint WE-PD2A_7850
pins: 1, 2

## WE-PD2A 7850, 784775118
designator L?, comment 18 μH
WE-PD2A SMD Power Inductor, Inductance = 18 μH; partNo: 784775118; Manufacturer: Wurth Elektronik; Inductance: 18 μH; ComponentLink1Description: Manufacturer; ComponentLink1URL: http://www.we-online.de; Created by: Baojun Chen; Created Date: Nov.2015; ComponentLink2Description: Datasheet; ComponentLink2URL: http://katalog.we-online.de/pbs/datasheet/784775118.pdf
footprint WE-PD2A_7850
pins: 1, 2

## WE-PD2A 7850, 784775122
designator L?, comment 22 μH
WE-PD2A SMD Power Inductor, Inductance = 22 μH; partNo: 784775122; Manufacturer: Wurth Elektronik; Inductance: 22 μH; ComponentLink1Description: Manufacturer; ComponentLink1URL: http://www.we-online.de; Created by: Baojun Chen; Created Date: Nov.2015; ComponentLink2Description: Datasheet; ComponentLink2URL: http://katalog.we-online.de/pbs/datasheet/784775122.pdf
footprint WE-PD2A_7850
pins: 1, 2

## WE-PD2A 7850, 784775127
designator L?, comment 27 μH
WE-PD2A SMD Power Inductor, Inductance = 27 μH; partNo: 784775127; Manufacturer: Wurth Elektronik; Inductance: 27 μH; ComponentLink1Description: Manufacturer; ComponentLink1URL: http://www.we-online.de; Created by: Baojun Chen; Created Date: Nov.2015; ComponentLink2Description: Datasheet; ComponentLink2URL: http://katalog.we-online.de/pbs/datasheet/784775127.pdf
footprint WE-PD2A_7850
pins: 1, 2

## WE-PD2A 7850, 784775133
designator L?, comment 33 μH
WE-PD2A SMD Power Inductor, Inductance = 33 μH; partNo: 784775133; Manufacturer: Wurth Elektronik; Inductance: 33 μH; ComponentLink1Description: Manufacturer; ComponentLink1URL: http://www.we-online.de; Created by: Baojun Chen; Created Date: Nov.2015; ComponentLink2Description: Datasheet; ComponentLink2URL: http://katalog.we-online.de/pbs/datasheet/784775133.pdf
footprint WE-PD2A_7850
pins: 1, 2

## WE-PD2A 7850, 784775139
designator L?, comment 39 μH
WE-PD2A SMD Power Inductor, Inductance = 39 μH; partNo: 784775139; Manufacturer: Wurth Elektronik; Inductance: 39 μH; ComponentLink1Description: Manufacturer; ComponentLink1URL: http://www.we-online.de; Created by: Baojun Chen; Created Date: Nov.2015; ComponentLink2Description: Datasheet; ComponentLink2URL: http://katalog.we-online.de/pbs/datasheet/784775139.pdf
footprint WE-PD2A_7850
pins: 1, 2

## WE-PD2A 7850, 784775147
designator L?, comment 47 μH
WE-PD2A SMD Power Inductor, Inductance = 47 μH; partNo: 784775147; Manufacturer: Wurth Elektronik; Inductance: 47 μH; ComponentLink1Description: Manufacturer; ComponentLink1URL: http://www.we-online.de; Created by: Baojun Chen; Created Date: Nov.2015; ComponentLink2Description: Datasheet; ComponentLink2URL: http://katalog.we-online.de/pbs/datasheet/784775147.pdf
footprint WE-PD2A_7850
pins: 1, 2

## WE-PD2A 7850, 784775168
designator L?, comment 68 μH
WE-PD2A SMD Power Inductor, Inductance = 68 μH; partNo: 784775168; Manufacturer: Wurth Elektronik; Inductance: 68 μH; ComponentLink1Description: Manufacturer; ComponentLink1URL: http://www.we-online.de; Created by: Baojun Chen; Created Date: Nov.2015; ComponentLink2Description: Datasheet; ComponentLink2URL: http://katalog.we-online.de/pbs/datasheet/784775168.pdf
footprint WE-PD2A_7850
pins: 1, 2

## WE-PD2A 7850, 784775182
designator L?, comment 82 μH
WE-PD2A SMD Power Inductor, Inductance = 82 μH; partNo: 784775182; Manufacturer: Wurth Elektronik; Inductance: 82 μH; ComponentLink1Description: Manufacturer; ComponentLink1URL: http://www.we-online.de; Created by: Baojun Chen; Created Date: Nov.2015; ComponentLink2Description: Datasheet; ComponentLink2URL: http://katalog.we-online.de/pbs/datasheet/784775182.pdf
footprint WE-PD2A_7850
pins: 1, 2

## WE-PD2A 7850, 784775212
designator L?, comment 120 μH
WE-PD2A SMD Power Inductor, Inductance = 120 μH; partNo: 784775212; Manufacturer: Wurth Elektronik; Inductance: 120 μH; ComponentLink1Description: Manufacturer; ComponentLink1URL: http://www.we-online.de; Created by: Baojun Chen; Created Date: Nov.2015; ComponentLink2Description: Datasheet; ComponentLink2URL: http://katalog.we-online.de/pbs/datasheet/784775212.pdf
footprint WE-PD2A_7850
pins: 1, 2

## WE-PD2A 7850, 784775215
designator L?, comment 150 μH
WE-PD2A SMD Power Inductor, Inductance = 150 μH; partNo: 784775215; Manufacturer: Wurth Elektronik; Inductance: 150 μH; ComponentLink1Description: Manufacturer; ComponentLink1URL: http://www.we-online.de; Created by: Baojun Chen; Created Date: Nov.2015; ComponentLink2Description: Datasheet; ComponentLink2URL: http://katalog.we-online.de/pbs/datasheet/784775215.pdf
footprint WE-PD2A_7850
pins: 1, 2

## WE-PD2A 7850, 784775218
designator L?, comment 180 μH
WE-PD2A SMD Power Inductor, Inductance = 180 μH; partNo: 784775218; Manufacturer: Wurth Elektronik; Inductance: 180 μH; ComponentLink1Description: Manufacturer; ComponentLink1URL: http://www.we-online.de; Created by: Baojun Chen; Created Date: Nov.2015; ComponentLink2Description: Datasheet; ComponentLink2URL: http://katalog.we-online.de/pbs/datasheet/784775218.pdf
footprint WE-PD2A_7850
pins: 1, 2

## WE-PD2A 7850, 784775222
designator L?, comment 220 μH
WE-PD2A SMD Power Inductor, Inductance = 220 μH; partNo: 784775222; Manufacturer: Wurth Elektronik; Inductance: 220 μH; ComponentLink1Description: Manufacturer; ComponentLink1URL: http://www.we-online.de; Created by: Baojun Chen; Created Date: Nov.2015; ComponentLink2Description: Datasheet; ComponentLink2URL: http://katalog.we-online.de/pbs/datasheet/784775222.pdf
footprint WE-PD2A_7850
pins: 1, 2

## WE-PD2A 7850, 784775227
designator L?, comment 270 μH
WE-PD2A SMD Power Inductor, Inductance = 270 μH; partNo: 784775227; Manufacturer: Wurth Elektronik; Inductance: 270 μH; ComponentLink1Description: Manufacturer; ComponentLink1URL: http://www.we-online.de; Created by: Baojun Chen; Created Date: Nov.2015; ComponentLink2Description: Datasheet; ComponentLink2URL: http://katalog.we-online.de/pbs/datasheet/784775227.pdf
footprint WE-PD2A_7850
pins: 1, 2

## WE-PD2A 7850, 784775233
designator L?, comment 330 μH
WE-PD2A SMD Power Inductor, Inductance = 330 μH; partNo: 784775233; Manufacturer: Wurth Elektronik; Inductance: 330 μH; ComponentLink1Description: Manufacturer; ComponentLink1URL: http://www.we-online.de; Created by: Baojun Chen; Created Date: Nov.2015; ComponentLink2Description: Datasheet; ComponentLink2URL: http://katalog.we-online.de/pbs/datasheet/784775233.pdf
footprint WE-PD2A_7850
pins: 1, 2

## WE-PD2A 7850, 784775239
designator L?, comment 390 μH
WE-PD2A SMD Power Inductor, Inductance = 390 μH; partNo: 784775239; Manufacturer: Wurth Elektronik; Inductance: 390 μH; ComponentLink1Description: Manufacturer; ComponentLink1URL: http://www.we-online.de; Created by: Baojun Chen; Created Date: Nov.2015; ComponentLink2Description: Datasheet; ComponentLink2URL: http://katalog.we-online.de/pbs/datasheet/784775239.pdf
footprint WE-PD2A_7850
pins: 1, 2

## WE-PD2A 7850, 784775247
designator L?, comment 470 μH
WE-PD2A SMD Power Inductor, Inductance = 470 μH; partNo: 784775247; Manufacturer: Wurth Elektronik; Inductance: 470 μH; ComponentLink1Description: Manufacturer; ComponentLink1URL: http://www.we-online.de; Created by: Baojun Chen; Created Date: Nov.2015; ComponentLink2Description: Datasheet; ComponentLink2URL: http://katalog.we-online.de/pbs/datasheet/784775247.pdf
footprint WE-PD2A_7850
pins: 1, 2